# Altium footprint library Breakout_Module.PcbLib: 2 footprints
Each footprint in its own frame and in the unit in brackets; x right, y up, seen from the top. Pads: shape width x height; smd on the part's side, far side on the other; paste and mask are expansions set on the pad; w line width, h text height; cw(c..) or ccw(c..) is an arc to the next point about the centre after c.
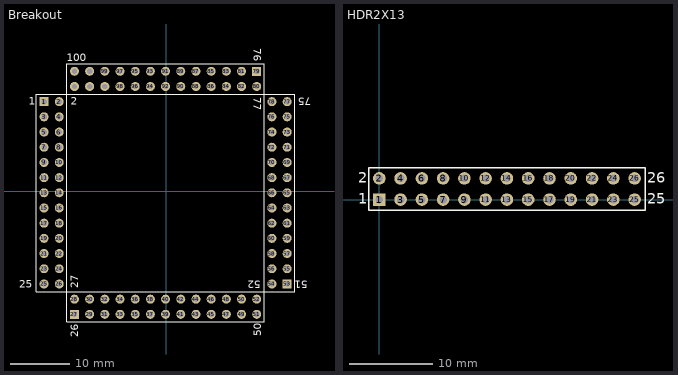
[diagram p0: the footprints below, top view; thin cyan lines are the x and y axes]

## Breakout [mm]
pads (104):
  rect 1.5x1.5 hole 0.9: 1(-20.433,14.954) 27(-15.353,-20.606) 53(20.207,-15.526) 79(15.127,20.034)
  round 1.5 hole 0.9: 2(-17.893,14.954) 3(-20.433,12.414) 4(-17.893,12.414) 5(-20.433,9.874) 6(-17.893,9.874) 7(-20.433,7.334) 8(-17.893,7.334) 9(-20.433,4.794) 10(-17.893,4.794) 11(-20.433,2.254) 12(-17.893,2.254) 13(-20.433,-0.286) 14(-17.893,-0.286) 15(-20.433,-2.826) 16(-17.893,-2.826) 17(-20.433,-5.366) 18(-17.893,-5.366) 19(-20.433,-7.906) 20(-17.893,-7.906) 21(-20.433,-10.446) 22(-17.893,-10.446) 23(-20.433,-12.986) 24(-17.893,-12.986) 25(-20.433,-15.526) 26(-17.893,-15.526) 28(-15.353,-18.066) 29(-12.813,-20.606) 30(-12.813,-18.066) 31(-10.273,-20.606) 32(-10.273,-18.066) 33(-7.733,-20.606) 34(-7.733,-18.066) 35(-5.193,-20.606) 36(-5.193,-18.066) 37(-2.653,-20.606) 38(-2.653,-18.066) 39(-0.113,-20.606) 40(-0.113,-18.066) 41(2.427,-20.606) 42(2.427,-18.066) 43(4.967,-20.606) 44(4.967,-18.066) 45(7.507,-20.606) 46(7.507,-18.066) 47(10.047,-20.606) 48(10.047,-18.066) 49(12.587,-20.606) 50(12.587,-18.066) 51(15.127,-20.606) 52(15.127,-18.066) 54(17.667,-15.526) 55(20.207,-12.986) 56(17.667,-12.986) 57(20.207,-10.446) 58(17.667,-10.446) 59(20.207,-7.906) 60(17.667,-7.906) 61(20.207,-5.366) 62(17.667,-5.366) 63(20.207,-2.826) 64(17.667,-2.826) 65(20.207,-0.286) 66(17.667,-0.286) 67(20.207,2.254) 68(17.667,2.254) 69(20.207,4.794) 70(17.667,4.794) 71(20.207,7.334) 72(17.667,7.334) 73(20.207,9.874) 74(17.667,9.874) 75(20.207,12.414) 76(17.667,12.414) 77(20.207,14.954) 78(17.667,14.954) 80(15.127,17.494) 81(12.587,20.034) 82(12.587,17.494) 83(10.047,20.034) 84(10.047,17.494) 85(7.507,20.034) 86(7.507,17.494) 87(4.967,20.034) 88(4.967,17.494) 89(2.427,20.034) 90(2.427,17.494) 91(-0.113,20.034) 92(-0.113,17.494) 93(-2.653,20.034) 94(-2.653,17.494) 95(-5.193,20.034) 96(-5.193,17.494) 97(-7.733,20.034) 98(-7.733,17.494) 99(-10.273,20.034) 100(-10.273,17.494) 101(-12.813,20.034) 102(-12.813,17.494) 103(-15.353,20.034) 104(-15.353,17.494)
Top Overlay:
  lines w0.2: -16.623,-16.796 -16.623,-21.876 16.397,-21.876 16.397,-16.796 ; -16.623,-16.796 16.397,-16.796 ; -16.623,-16.796 -21.703,-16.796 -21.703,16.224 -16.623,16.224 ; -16.623,-16.796 -16.623,16.224 ; -16.623,16.224 -16.623,21.304 16.397,21.304 16.397,16.224 ; -16.623,16.224 16.397,16.224 ; 16.397,-16.796 21.477,-16.796 21.477,16.224 16.397,16.224 ; 16.397,-16.796 16.397,16.224
  text "100" at -16.623,21.685 h1.27
  text "76" at 14.619,23.844 h1.27
  text "77" at 14.619,15.716 h1.27
  text "25" at -24.624,-16.161 h1.27
  text "2" at -15.988,14.446 h1.27
  text "1" at -22.973,14.446 h1.27
  text "27" at -14.718,-16.288 h1.27
  text "26" at -14.718,-24.416 h1.27
  text "50" at 15.889,-24.289 h1.27
  text "52" at 15.762,-15.018 h1.27
  text "51" at 23.636,-15.018 h1.27
  text "75" at 24.271,15.589 h1.27

## HDR2X13 [mm] "Connector; Header; 13x2 Position"
pads (26):
  rect 1.5x1.5 hole 0.9: 1(0,0)
  round 1.5 hole 0.9: 2(0,2.54) 3(2.54,0) 4(2.54,2.54) 5(5.08,0) 6(5.08,2.54) 7(7.62,0) 8(7.62,2.54) 9(10.16,0) 10(10.16,2.54) 11(12.7,0) 12(12.7,2.54) 13(15.24,0) 14(15.24,2.54) 15(17.78,0) 16(17.78,2.54) 17(20.32,0) 18(20.32,2.54) 19(22.86,0) 20(22.86,2.54) 21(25.4,0) 22(25.4,2.54) 23(27.94,0) 24(27.94,2.54) 25(30.48,0) 26(30.48,2.54)
Top Overlay:
  lines w0.2: -1.27,-1.27 31.75,-1.27 31.75,3.81 -1.27,3.81 -1.27,-1.27
  text "26" at 32.004,2.032 h1.27
  text "25" at 32.004,-0.508 h1.27
  text "1" at -2.54,-0.508 h1.27
  text "2" at -2.54,2.032 h1.27